# EAGLE library part 74HC2G125 (library Public)
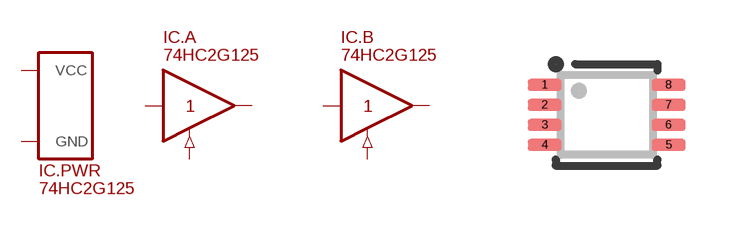
[diagram p65: symbol with the pads of VSSOP8; footprint VSSOP8]

Designator prefix IC; gates .PWR=SUPPLY_VCC/GND .A=TRISTATE_BUFFER .B=TRISTATE_BUFFER

## 74HC2G125  [VSSOP8]
1  .A:OE
2  .A:A
3  .B:Y
4  .PWR:GND
5  .B:A
6  .A:Y
7  .B:OE
8  .PWR:VCC

## Footprint VSSOP8 (pad centres in mm)
smd 0.85 x 0.3: 1 -1.55,0.75; 2 -1.55,0.25; 3 -1.55,-0.25; 4 -1.55,-0.75; 5 1.55,-0.75; 6 1.55,-0.25; 7 1.55,0.25; 8 1.55,0.75